# EAGLE library part EZO-BU3BU4 (library con-ezo)
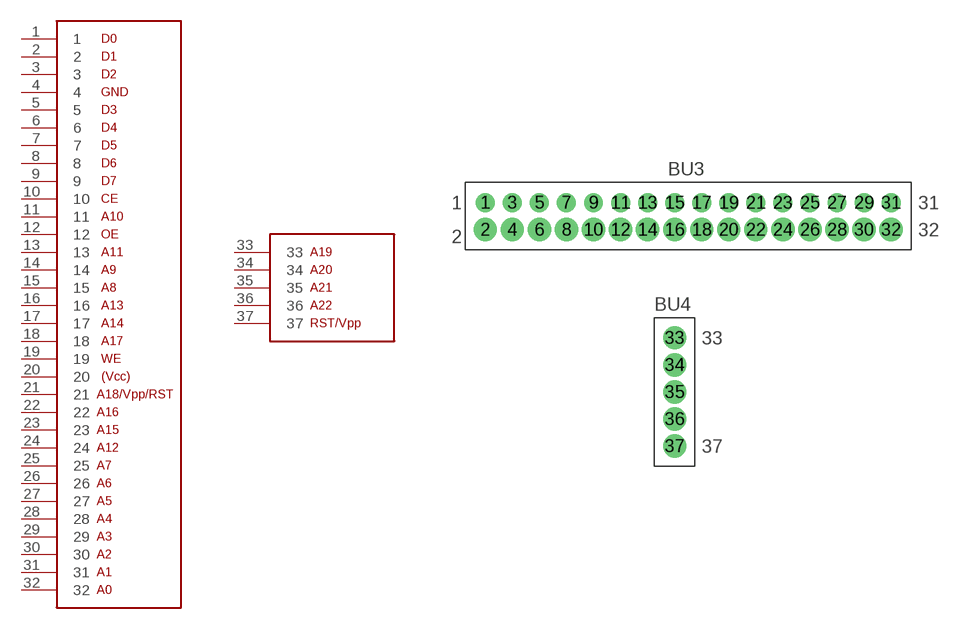
[diagram p0: symbol with the pads of EZO-BU3BU4; footprint EZO-BU3BU4]

Designator prefix -; gates BU3=EZO-BU3 BU4=EZO-BU4

## EZO-BU3BU4  [EZO-BU3BU4]
1  BU3:1
2  BU3:2
3  BU3:3
4  BU3:4
5  BU3:5
6  BU3:6
7  BU3:7
8  BU3:8
9  BU3:9
10  BU3:10
11  BU3:11
12  BU3:12
13  BU3:13
14  BU3:14
15  BU3:15
16  BU3:16
17  BU3:17
18  BU3:18
19  BU3:19
20  BU3:20
21  BU3:21
22  BU3:22
23  BU3:23
24  BU3:24
25  BU3:25
26  BU3:26
27  BU3:27
28  BU3:28
29  BU3:29
30  BU3:30
31  BU3:31
32  BU3:32
33  BU4:33
34  BU4:34
35  BU4:35
36  BU4:36
37  BU4:37

## Footprint EZO-BU3BU4 (pad centres in mm)
drill 0.8 pad 1.778: 1 0,0; 3 2.54,0; 5 5.08,0; 7 7.62,0; 9 10.16,0; 11 12.7,0; 13 15.24,0; 15 17.78,0; 17 20.32,0; 19 22.86,0; 21 25.4,0; 23 27.94,0; 25 30.48,0; 27 33.02,0; 29 35.56,0; 31 38.1,0
drill 0.8 pad 2.184: 2 0,-2.54; 4 2.54,-2.54; 6 5.08,-2.54; 8 7.62,-2.54; 10 10.16,-2.54; 12 12.7,-2.54; 14 15.24,-2.54; 16 17.78,-2.54; 18 20.32,-2.54; 20 22.86,-2.54; 22 25.4,-2.54; 24 27.94,-2.54; 26 30.48,-2.54; 28 33.02,-2.54; 30 35.56,-2.54; 32 38.1,-2.54; 33 17.78,-12.7; 34 17.78,-15.24; 35 17.78,-17.78; 36 17.78,-20.32; 37 17.78,-22.86